# Altium schematic symbol library CRE2512-FZ-R001E-3.SchLib: 1 symbol
Pins are listed as number, name and electrical type; pins without a type are passive.

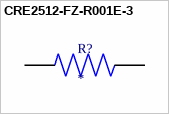
[diagram p0: symbol CRE2512-FZ-R001E-3]

## CRE2512-FZ-R001E-3
designator R?
MP: CRE2512-FZ-R001E-3; MF: {'manufacturer': u'Bourns Inc.'}; Price: None; Package: None; Availability: Unavailable; Value: *
footprint RESC6432X90N
pins: 1, 2